# Altium footprint library Spansion Footprints.PcbLib: 20 footprints (part 1 of 2)
Each footprint in its own frame and in the unit in brackets; x right, y up, seen from the top. Pads: shape width x height; smd on the part's side, far side on the other; paste and mask are expansions set on the pad; w line width, h text height; cw(c..) or ccw(c..) is an arc to the next point about the centre after c.
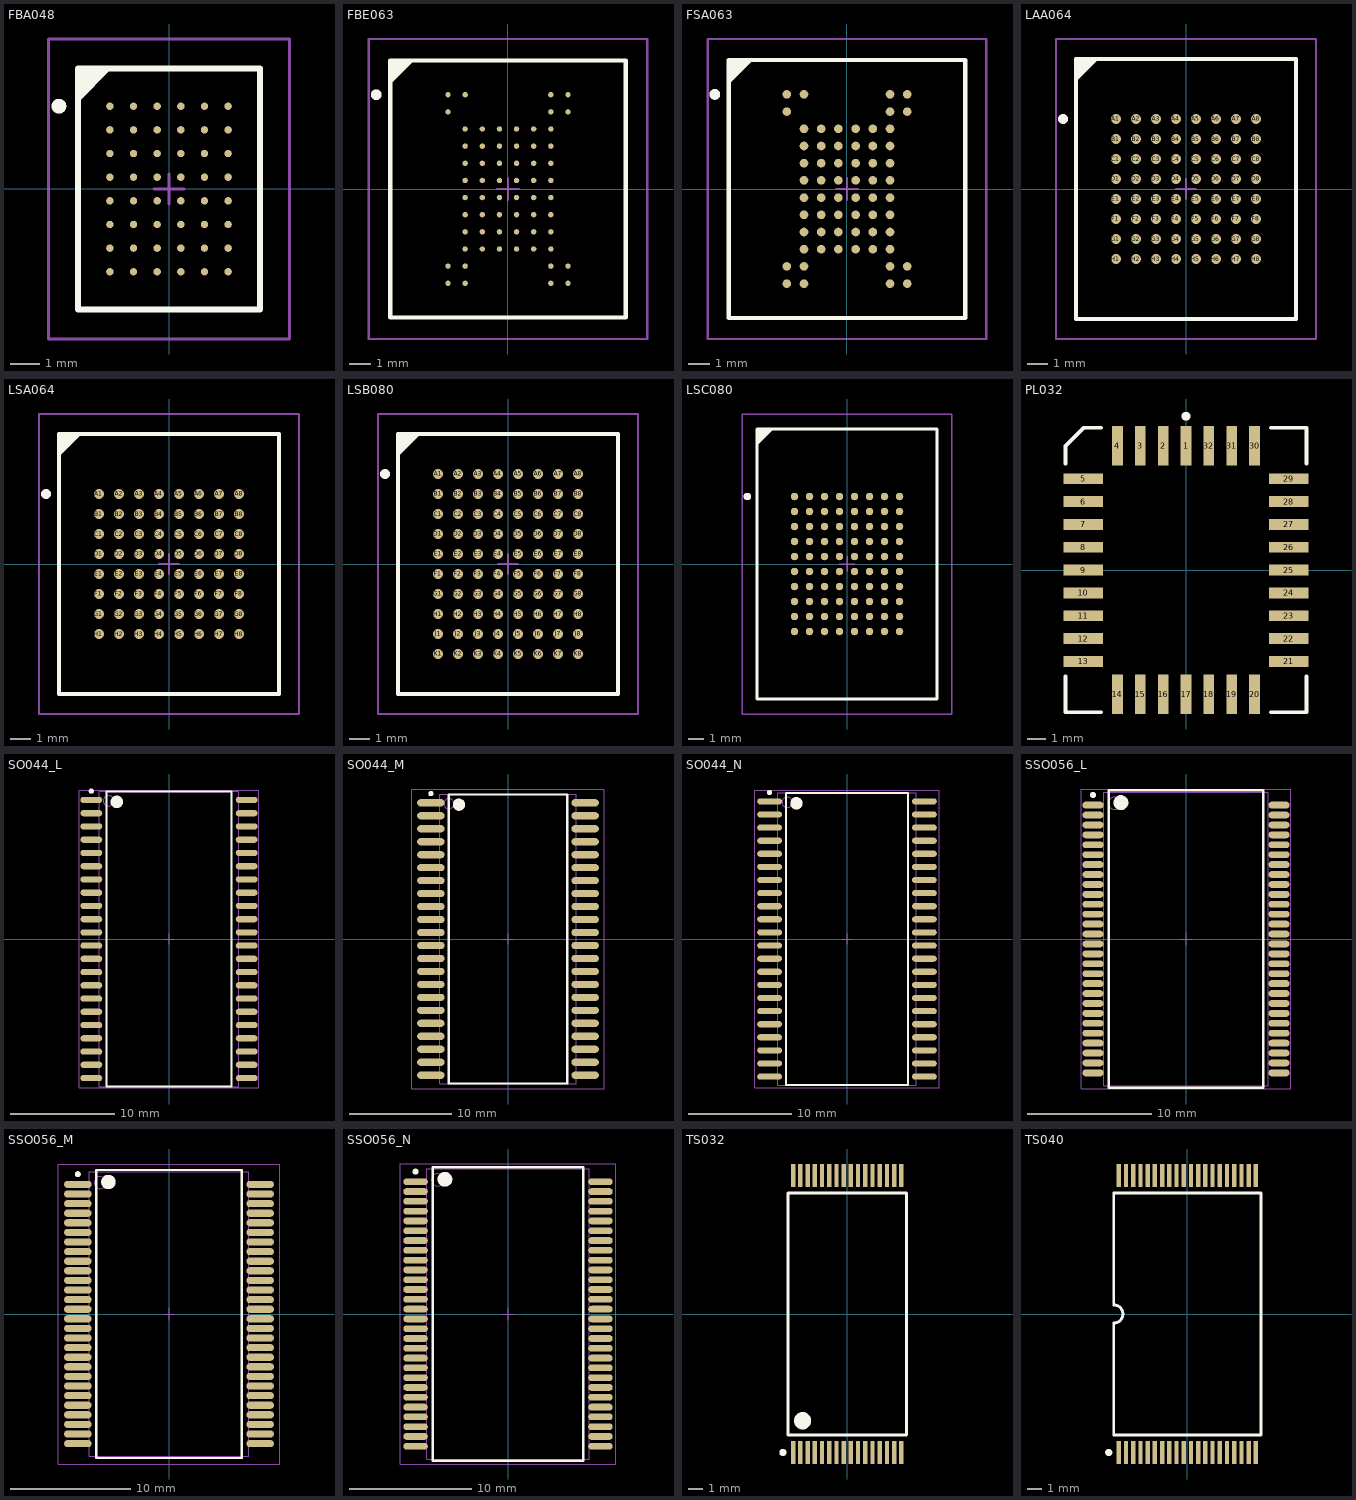
[diagram p0: the footprints below, top view; thin cyan lines are the x and y axes]

## FBA048 [mm] "48-Ball Fine Pitch Ball Grid Array Rectangular 0.8 mm Pitch"
height 1.2
pads (48):
  round 0.25 smd: A1(-2,2.8) A2(-1.2,2.8) A3(-0.4,2.8) A4(0.4,2.8) A5(1.2,2.8) A6(2,2.8) B1(-2,2) B2(-1.2,2) B3(-0.4,2) B4(0.4,2) B5(1.2,2) B6(2,2) C1(-2,1.2) C2(-1.2,1.2) C3(-0.4,1.2) C4(0.4,1.2) C5(1.2,1.2) C6(2,1.2) D1(-2,0.4) D2(-1.2,0.4) D3(-0.4,0.4) D4(0.4,0.4) D5(1.2,0.4) D6(2,0.4) E1(-2,-0.4) E2(-1.2,-0.4) E3(-0.4,-0.4) E4(0.4,-0.4) E5(1.2,-0.4) E6(2,-0.4) F1(-2,-1.2) F2(-1.2,-1.2) F3(-0.4,-1.2) F4(0.4,-1.2) F5(1.2,-1.2) F6(2,-1.2) G1(-2,-2) G2(-1.2,-2) G3(-0.4,-2) G4(0.4,-2) G5(1.2,-2) G6(2,-2) H1(-2,-2.8) H2(-1.2,-2.8) H3(-0.4,-2.8) H4(0.4,-2.8) H5(1.2,-2.8) H6(2,-2.8)
Top Overlay:
  circle w0.25: c-3.725,2.8 r0.125
  region: -2.075,4.075 -3.075,3.075 -3.075,4.075
  lines w0.2: -3.075,3.075 -2.075,4.075 ; -3.075,-4.075 3.075,-4.075 3.075,4.075 -3.075,4.075 -3.075,-4.075
Mechanical 13:
  lines w0.1: -3.075,-4.075 3.075,-4.075 3.075,4.075 -3.075,4.075 -3.075,-4.075
Mechanical 15:
  lines w0.1: -0.5,0 0.5,0 ; 0,-0.5 0,0.5 ; -4.075,-5.075 4.075,-5.075 4.075,5.075 -4.075,5.075 -4.075,-5.075
3D body: height 1.2, standoff 0, extent -3.075,-4.075 3.075,4.075

## FBE063 [mm] "63-Ball Fine Pitch Ball Grid Array Rectangular 0.8 mm Pitch"
height 1.2
pads (63):
  round 0.25 smd: A1(-2.8,4.4) A2(-2,4.4) A7(2,4.4) A8(2.8,4.4) B1(-2.8,3.6) B7(2,3.6) B8(2.8,3.6) C2(-2,2.8) C3(-1.2,2.8) C4(-0.4,2.8) C5(0.4,2.8) C6(1.2,2.8) C7(2,2.8) D2(-2,2) D3(-1.2,2) D4(-0.4,2) D5(0.4,2) D6(1.2,2) D7(2,2) E2(-2,1.2) E3(-1.2,1.2) E4(-0.4,1.2) E5(0.4,1.2) E6(1.2,1.2) E7(2,1.2) F2(-2,0.4) F3(-1.2,0.4) F4(-0.4,0.4) F5(0.4,0.4) F6(1.2,0.4) F7(2,0.4) G2(-2,-0.4) G3(-1.2,-0.4) G4(-0.4,-0.4) G5(0.4,-0.4) G6(1.2,-0.4) G7(2,-0.4) H2(-2,-1.2) H3(-1.2,-1.2) H4(-0.4,-1.2) H5(0.4,-1.2) H6(1.2,-1.2) H7(2,-1.2) J2(-2,-2) J3(-1.2,-2) J4(-0.4,-2) J5(0.4,-2) J6(1.2,-2) J7(2,-2) K2(-2,-2.8) K3(-1.2,-2.8) K4(-0.4,-2.8) K5(0.4,-2.8) K6(1.2,-2.8) K7(2,-2.8) L1(-2.8,-3.6) L2(-2,-3.6) L7(2,-3.6) L8(2.8,-3.6) M1(-2.8,-4.4) M2(-2,-4.4) M7(2,-4.4) M8(2.8,-4.4)
Top Overlay:
  circle w0.25: c-6.15,4.4 r0.125
  region: -4.5,6 -5.5,5 -5.5,6
  lines w0.2: -5.5,5 -4.5,6 ; -5.5,-6 5.5,-6 5.5,6 -5.5,6 -5.5,-6
Mechanical 13:
  lines w0.1: -5.5,-6 5.5,-6 5.5,6 -5.5,6 -5.5,-6
Mechanical 15:
  lines w0.1: -0.5,0 0.5,0 ; 0,-0.5 0,0.5 ; -6.5,-7 6.5,-7 6.5,7 -6.5,7 -6.5,-7
3D body: height 1.2, standoff 0, extent -5.5,-6 5.5,6

## FSA063 [mm] "63-Ball Fine Pitch Ball Grid Array Rectangular 0.8 mm Pitch"
height 1.7
pads (63):
  round 0.4 smd: A1(-2.8,4.4) A2(-2,4.4) A7(2,4.4) A8(2.8,4.4) B1(-2.8,3.6) B7(2,3.6) B8(2.8,3.6) C2(-2,2.8) C3(-1.2,2.8) C4(-0.4,2.8) C5(0.4,2.8) C6(1.2,2.8) C7(2,2.8) D2(-2,2) D3(-1.2,2) D4(-0.4,2) D5(0.4,2) D6(1.2,2) D7(2,2) E2(-2,1.2) E3(-1.2,1.2) E4(-0.4,1.2) E5(0.4,1.2) E6(1.2,1.2) E7(2,1.2) F2(-2,0.4) F3(-1.2,0.4) F4(-0.4,0.4) F5(0.4,0.4) F6(1.2,0.4) F7(2,0.4) G2(-2,-0.4) G3(-1.2,-0.4) G4(-0.4,-0.4) G5(0.4,-0.4) G6(1.2,-0.4) G7(2,-0.4) H2(-2,-1.2) H3(-1.2,-1.2) H4(-0.4,-1.2) H5(0.4,-1.2) H6(1.2,-1.2) H7(2,-1.2) J2(-2,-2) J3(-1.2,-2) J4(-0.4,-2) J5(0.4,-2) J6(1.2,-2) J7(2,-2) K2(-2,-2.8) K3(-1.2,-2.8) K4(-0.4,-2.8) K5(0.4,-2.8) K6(1.2,-2.8) K7(2,-2.8) L1(-2.8,-3.6) L2(-2,-3.6) L7(2,-3.6) L8(2.8,-3.6) M1(-2.8,-4.4) M2(-2,-4.4) M7(2,-4.4) M8(2.8,-4.4)
Top Overlay:
  circle w0.25: c-6.15,4.4 r0.125
  region: -4.5,6 -5.5,5 -5.5,6
  lines w0.2: -5.5,5 -4.5,6 ; -5.5,-6 5.5,-6 5.5,6 -5.5,6 -5.5,-6
Mechanical 13:
  lines w0.1: -5.475,-5.975 5.475,-5.975 5.475,5.975 -5.475,5.975 -5.475,-5.975
Mechanical 15:
  lines w0.1: -0.5,0 0.5,0 ; 0,-0.5 0,0.5 ; -6.475,-6.975 6.475,-6.975 6.475,6.975 -6.475,6.975 -6.475,-6.975
3D body: height 1.7, standoff 0, extent -5.475,-5.975 5.475,5.975

## LAA064 [mm] "64-Ball Fortified Ball Grid Array Rectangular 1 mm Pitch"
height 1.4
pads (64):
  round 0.5 smd: A1(-3.5,3.5) A2(-2.5,3.5) A3(-1.5,3.5) A4(-0.5,3.5) A5(0.5,3.5) A6(1.5,3.5) A7(2.5,3.5) A8(3.5,3.5) B1(-3.5,2.5) B2(-2.5,2.5) B3(-1.5,2.5) B4(-0.5,2.5) B5(0.5,2.5) B6(1.5,2.5) B7(2.5,2.5) B8(3.5,2.5) C1(-3.5,1.5) C2(-2.5,1.5) C3(-1.5,1.5) C4(-0.5,1.5) C5(0.5,1.5) C6(1.5,1.5) C7(2.5,1.5) C8(3.5,1.5) D1(-3.5,0.5) D2(-2.5,0.5) D3(-1.5,0.5) D4(-0.5,0.5) D5(0.5,0.5) D6(1.5,0.5) D7(2.5,0.5) D8(3.5,0.5) E1(-3.5,-0.5) E2(-2.5,-0.5) E3(-1.5,-0.5) E4(-0.5,-0.5) E5(0.5,-0.5) E6(1.5,-0.5) E7(2.5,-0.5) E8(3.5,-0.5) F1(-3.5,-1.5) F2(-2.5,-1.5) F3(-1.5,-1.5) F4(-0.5,-1.5) F5(0.5,-1.5) F6(1.5,-1.5) F7(2.5,-1.5) F8(3.5,-1.5) G1(-3.5,-2.5) G2(-2.5,-2.5) G3(-1.5,-2.5) G4(-0.5,-2.5) G5(0.5,-2.5) G6(1.5,-2.5) G7(2.5,-2.5) G8(3.5,-2.5) H1(-3.5,-3.5) H2(-2.5,-3.5) H3(-1.5,-3.5) H4(-0.5,-3.5) H5(0.5,-3.5) H6(1.5,-3.5) H7(2.5,-3.5) H8(3.5,-3.5)
Top Overlay:
  circle w0.25: c-6.15,3.5 r0.125
  region: -4.5,6.5 -5.5,5.5 -5.5,6.5
  lines w0.2: -5.5,5.5 -4.5,6.5 ; -5.5,-6.5 5.5,-6.5 5.5,6.5 -5.5,6.5 -5.5,-6.5
Mechanical 13:
  lines w0.1: -5.5,-6.5 5.5,-6.5 5.5,6.5 -5.5,6.5 -5.5,-6.5
Mechanical 15:
  lines w0.1: -0.5,0 0.5,0 ; 0,-0.5 0,0.5 ; -6.5,-7.5 6.5,-7.5 6.5,7.5 -6.5,7.5 -6.5,-7.5
3D body: height 1.4, standoff 0, extent -5.5,-6.5 5.5,6.5

## LSA064 [mm] "64-Ball Fortified Ball Grid Array Rectangular 1 mm Pitch"
height 1.7
pads (64):
  round 0.5 smd: A1(-3.5,3.5) A2(-2.5,3.5) A3(-1.5,3.5) A4(-0.5,3.5) A5(0.5,3.5) A6(1.5,3.5) A7(2.5,3.5) A8(3.5,3.5) B1(-3.5,2.5) B2(-2.5,2.5) B3(-1.5,2.5) B4(-0.5,2.5) B5(0.5,2.5) B6(1.5,2.5) B7(2.5,2.5) B8(3.5,2.5) C1(-3.5,1.5) C2(-2.5,1.5) C3(-1.5,1.5) C4(-0.5,1.5) C5(0.5,1.5) C6(1.5,1.5) C7(2.5,1.5) C8(3.5,1.5) D1(-3.5,0.5) D2(-2.5,0.5) D3(-1.5,0.5) D4(-0.5,0.5) D5(0.5,0.5) D6(1.5,0.5) D7(2.5,0.5) D8(3.5,0.5) E1(-3.5,-0.5) E2(-2.5,-0.5) E3(-1.5,-0.5) E4(-0.5,-0.5) E5(0.5,-0.5) E6(1.5,-0.5) E7(2.5,-0.5) E8(3.5,-0.5) F1(-3.5,-1.5) F2(-2.5,-1.5) F3(-1.5,-1.5) F4(-0.5,-1.5) F5(0.5,-1.5) F6(1.5,-1.5) F7(2.5,-1.5) F8(3.5,-1.5) G1(-3.5,-2.5) G2(-2.5,-2.5) G3(-1.5,-2.5) G4(-0.5,-2.5) G5(0.5,-2.5) G6(1.5,-2.5) G7(2.5,-2.5) G8(3.5,-2.5) H1(-3.5,-3.5) H2(-2.5,-3.5) H3(-1.5,-3.5) H4(-0.5,-3.5) H5(0.5,-3.5) H6(1.5,-3.5) H7(2.5,-3.5) H8(3.5,-3.5)
Top Overlay:
  circle w0.25: c-6.15,3.5 r0.125
  region: -4.5,6.5 -5.5,5.5 -5.5,6.5
  lines w0.2: -5.5,5.5 -4.5,6.5 ; -5.5,-6.5 5.5,-6.5 5.5,6.5 -5.5,6.5 -5.5,-6.5
Mechanical 13:
  lines w0.1: -5.5,-6.5 5.5,-6.5 5.5,6.5 -5.5,6.5 -5.5,-6.5
Mechanical 15:
  lines w0.1: -0.5,0 0.5,0 ; 0,-0.5 0,0.5 ; -6.5,-7.5 6.5,-7.5 6.5,7.5 -6.5,7.5 -6.5,-7.5
3D body: height 1.7, standoff 0, extent -5.5,-6.5 5.5,6.5

## LSB080 [mm] "80-Ball Fortified Ball Grid Array Rectangular 1 mm Pitch"
height 1.6
pads (80):
  round 0.5 smd: A1(-3.5,4.5) A2(-2.5,4.5) A3(-1.5,4.5) A4(-0.5,4.5) A5(0.5,4.5) A6(1.5,4.5) A7(2.5,4.5) A8(3.5,4.5) B1(-3.5,3.5) B2(-2.5,3.5) B3(-1.5,3.5) B4(-0.5,3.5) B5(0.5,3.5) B6(1.5,3.5) B7(2.5,3.5) B8(3.5,3.5) C1(-3.5,2.5) C2(-2.5,2.5) C3(-1.5,2.5) C4(-0.5,2.5) C5(0.5,2.5) C6(1.5,2.5) C7(2.5,2.5) C8(3.5,2.5) D1(-3.5,1.5) D2(-2.5,1.5) D3(-1.5,1.5) D4(-0.5,1.5) D5(0.5,1.5) D6(1.5,1.5) D7(2.5,1.5) D8(3.5,1.5) E1(-3.5,0.5) E2(-2.5,0.5) E3(-1.5,0.5) E4(-0.5,0.5) E5(0.5,0.5) E6(1.5,0.5) E7(2.5,0.5) E8(3.5,0.5) F1(-3.5,-0.5) F2(-2.5,-0.5) F3(-1.5,-0.5) F4(-0.5,-0.5) F5(0.5,-0.5) F6(1.5,-0.5) F7(2.5,-0.5) F8(3.5,-0.5) G1(-3.5,-1.5) G2(-2.5,-1.5) G3(-1.5,-1.5) G4(-0.5,-1.5) G5(0.5,-1.5) G6(1.5,-1.5) G7(2.5,-1.5) G8(3.5,-1.5) H1(-3.5,-2.5) H2(-2.5,-2.5) H3(-1.5,-2.5) H4(-0.5,-2.5) H5(0.5,-2.5) H6(1.5,-2.5) H7(2.5,-2.5) H8(3.5,-2.5) J1(-3.5,-3.5) J2(-2.5,-3.5) J3(-1.5,-3.5) J4(-0.5,-3.5) J5(0.5,-3.5) J6(1.5,-3.5) J7(2.5,-3.5) J8(3.5,-3.5) K1(-3.5,-4.5) K2(-2.5,-4.5) K3(-1.5,-4.5) K4(-0.5,-4.5) K5(0.5,-4.5) K6(1.5,-4.5) K7(2.5,-4.5) K8(3.5,-4.5)
Top Overlay:
  circle w0.25: c-6.15,4.5 r0.125
  region: -4.5,6.5 -5.5,5.5 -5.5,6.5
  lines w0.2: -5.5,5.5 -4.5,6.5 ; -5.5,-6.5 5.5,-6.5 5.5,6.5 -5.5,6.5 -5.5,-6.5
Mechanical 13:
  lines w0.1: -5.5,-6.5 5.5,-6.5 5.5,6.5 -5.5,6.5 -5.5,-6.5
Mechanical 15:
  lines w0.1: -0.5,0 0.5,0 ; 0,-0.5 0,0.5 ; -6.5,-7.5 6.5,-7.5 6.5,7.5 -6.5,7.5 -6.5,-7.5
3D body: height 1.6, standoff 0, extent -5.5,-6.5 5.5,6.5

## LSC080 [mm] "80-Ball Fortified Ball Grid Array Rectangular 1 mm Pitch"
height 1.6
pads (80):
  round 0.5 smd: A1(-3.5,4.5) A2(-2.5,4.5) A3(-1.5,4.5) A4(-0.5,4.5) A5(0.5,4.5) A6(1.5,4.5) A7(2.5,4.5) A8(3.5,4.5) B1(-3.5,3.5) B2(-2.5,3.5) B3(-1.5,3.5) B4(-0.5,3.5) B5(0.5,3.5) B6(1.5,3.5) B7(2.5,3.5) B8(3.5,3.5) C1(-3.5,2.5) C2(-2.5,2.5) C3(-1.5,2.5) C4(-0.5,2.5) C5(0.5,2.5) C6(1.5,2.5) C7(2.5,2.5) C8(3.5,2.5) D1(-3.5,1.5) D2(-2.5,1.5) D3(-1.5,1.5) D4(-0.5,1.5) D5(0.5,1.5) D6(1.5,1.5) D7(2.5,1.5) D8(3.5,1.5) E1(-3.5,0.5) E2(-2.5,0.5) E3(-1.5,0.5) E4(-0.5,0.5) E5(0.5,0.5) E6(1.5,0.5) E7(2.5,0.5) E8(3.5,0.5) F1(-3.5,-0.5) F2(-2.5,-0.5) F3(-1.5,-0.5) F4(-0.5,-0.5) F5(0.5,-0.5) F6(1.5,-0.5) F7(2.5,-0.5) F8(3.5,-0.5) G1(-3.5,-1.5) G2(-2.5,-1.5) G3(-1.5,-1.5) G4(-0.5,-1.5) G5(0.5,-1.5) G6(1.5,-1.5) G7(2.5,-1.5) G8(3.5,-1.5) H1(-3.5,-2.5) H2(-2.5,-2.5) H3(-1.5,-2.5) H4(-0.5,-2.5) H5(0.5,-2.5) H6(1.5,-2.5) H7(2.5,-2.5) H8(3.5,-2.5) J1(-3.5,-3.5) J2(-2.5,-3.5) J3(-1.5,-3.5) J4(-0.5,-3.5) J5(0.5,-3.5) J6(1.5,-3.5) J7(2.5,-3.5) J8(3.5,-3.5) K1(-3.5,-4.5) K2(-2.5,-4.5) K3(-1.5,-4.5) K4(-0.5,-4.5) K5(0.5,-4.5) K6(1.5,-4.5) K7(2.5,-4.5) K8(3.5,-4.5)
Top Overlay:
  circle w0.25: c-6.65,4.5 r0.125
  region: -5,9 -6,8 -6,9
  lines w0.2: -6,8 -5,9 ; -6,-9 -6,9 6,9 6,-9 -6,-9
Mechanical 13:
  lines w0.1: -6,-9 -6,9 6,9 6,-9 -6,-9
Mechanical 15:
  lines w0.1: -0.5,0 0.5,0 ; 0,-0.5 0,0.5 ; -7,-10 -7,10 7,10 7,-10 -7,-10
3D body: height 1.6, standoff 0, extent -6,-9 6,9

## PL032 [mm] "Leaded Chip Carrier, Plastic; 32 Leads; Body 11.4 x 14 mm"
height 3.56
pads (32):
  rect 0.6x2.2 smd: 1(0,6.9) 2(-1.27,6.9) 3(-2.54,6.9) 4(-3.81,6.9) 14(-3.81,-6.9) 15(-2.54,-6.9) 16(-1.27,-6.9) 17(0,-6.9) 18(1.27,-6.9) 19(2.54,-6.9) 20(3.81,-6.9) 30(3.81,6.9) 31(2.54,6.9) 32(1.27,6.9)
  rect 2.2x0.6 smd: 5(-5.7,5.08) 6(-5.7,3.81) 7(-5.7,2.54) 8(-5.7,1.27) 9(-5.7,0) 10(-5.7,-1.27) 11(-5.7,-2.54) 12(-5.7,-3.81) 13(-5.7,-5.08) 21(5.7,-5.08) 22(5.7,-3.81) 23(5.7,-2.54) 24(5.7,-1.27) 25(5.7,0) 26(5.7,1.27) 27(5.7,2.54) 28(5.7,3.81) 29(5.7,5.08)
Top Overlay:
  circle w0.25: c0,8.55 r0.125
  lines w0.2: -6.7,-5.9 -6.7,-7.9 -4.7,-7.9 ; -6.7,5.9 -6.7,6.9 -5.7,7.9 -4.7,7.9 ; 4.7,-7.9 6.7,-7.9 6.7,-5.9 ; 4.7,7.9 6.7,7.9 6.7,5.9

## SO044_L [mm] "44-Pin Small Outline Package 1.27 mm Pitch, IPC High Density"
pads (44):
  oval 2.1x0.6 smd: 1(-7.45,13.335) 2(-7.45,12.065) 3(-7.45,10.795) 4(-7.45,9.525) 5(-7.45,8.255) 6(-7.45,6.985) 7(-7.45,5.715) 8(-7.45,4.445) 9(-7.45,3.175) 10(-7.45,1.905) 11(-7.45,0.635) 12(-7.45,-0.635) 13(-7.45,-1.905) 14(-7.45,-3.175) 15(-7.45,-4.445) 16(-7.45,-5.715) 17(-7.45,-6.985) 18(-7.45,-8.255) 19(-7.45,-9.525) 20(-7.45,-10.795) 21(-7.45,-12.065) 22(-7.45,-13.335) 23(7.45,-13.335) 24(7.45,-12.065) 25(7.45,-10.795) 26(7.45,-9.525) 27(7.45,-8.255) 28(7.45,-6.985) 29(7.45,-5.715) 30(7.45,-4.445) 31(7.45,-3.175) 32(7.45,-1.905) 33(7.45,-0.635) 34(7.45,0.635) 35(7.45,1.905) 36(7.45,3.175) 37(7.45,4.445) 38(7.45,5.715) 39(7.45,6.985) 40(7.45,8.255) 41(7.45,9.525) 42(7.45,10.795) 43(7.45,12.065) 44(7.45,13.335)
Top Overlay:
  circle w0.25: c-7.45,14.185 r0.125
  circle w0.6: c-5,13.15 r0.3
  lines w0.2: -6,-14.15 -6,14.15 6,14.15 6,-14.15 -6,-14.15
Mechanical 13:
  circle w0.1: c-5.8,13.25 r0.5
  lines w0.1: -6.7,-14.15 -6.7,14.15 6.7,14.15 6.7,-14.15 -6.7,-14.15
Mechanical 15:
  lines w0.1: -0.5,0 0.5,0 ; 0,-0.5 0,0.5 ; -8.6,-14.25 -8.6,14.25 8.6,14.25 8.6,-14.25 -8.6,-14.25
3D body: height 0, standoff 0, extent -6.7,-14.15 6.7,14.15

## SO044_M [mm] "44-Pin Small Outline Package 1.27 mm Pitch, IPC Low Density"
pads (44):
  oval 2.7x0.7 smd: 1(-7.55,13.335) 2(-7.55,12.065) 3(-7.55,10.795) 4(-7.55,9.525) 5(-7.55,8.255) 6(-7.55,6.985) 7(-7.55,5.715) 8(-7.55,4.445) 9(-7.55,3.175) 10(-7.55,1.905) 11(-7.55,0.635) 12(-7.55,-0.635) 13(-7.55,-1.905) 14(-7.55,-3.175) 15(-7.55,-4.445) 16(-7.55,-5.715) 17(-7.55,-6.985) 18(-7.55,-8.255) 19(-7.55,-9.525) 20(-7.55,-10.795) 21(-7.55,-12.065) 22(-7.55,-13.335) 23(7.55,-13.335) 24(7.55,-12.065) 25(7.55,-10.795) 26(7.55,-9.525) 27(7.55,-8.255) 28(7.55,-6.985) 29(7.55,-5.715) 30(7.55,-4.445) 31(7.55,-3.175) 32(7.55,-1.905) 33(7.55,-0.635) 34(7.55,0.635) 35(7.55,1.905) 36(7.55,3.175) 37(7.55,4.445) 38(7.55,5.715) 39(7.55,6.985) 40(7.55,8.255) 41(7.55,9.525) 42(7.55,10.795) 43(7.55,12.065) 44(7.55,13.335)
Top Overlay:
  circle w0.25: c-7.55,14.235 r0.125
  circle w0.6: c-4.8,13.15 r0.3
  lines w0.2: -5.8,-14.15 -5.8,14.15 5.8,14.15 5.8,-14.15 -5.8,-14.15
Mechanical 13:
  circle w0.1: c-5.8,13.25 r0.5
  lines w0.1: -6.7,-14.15 -6.7,14.15 6.7,14.15 6.7,-14.15 -6.7,-14.15
Mechanical 15:
  lines w0.1: -0.5,0 0.5,0 ; 0,-0.5 0,0.5 ; -9.4,-14.65 -9.4,14.65 9.4,14.65 9.4,-14.65 -9.4,-14.65
3D body: height 0, standoff 0, extent -6.7,-14.15 6.7,14.15

## SO044_N [mm] "44-Pin Small Outline Package 1.27 mm Pitch, IPC Medium Density"
pads (44):
  oval 2.4x0.6 smd: 1(-7.5,13.335) 2(-7.5,12.065) 3(-7.5,10.795) 4(-7.5,9.525) 5(-7.5,8.255) 6(-7.5,6.985) 7(-7.5,5.715) 8(-7.5,4.445) 9(-7.5,3.175) 10(-7.5,1.905) 11(-7.5,0.635) 12(-7.5,-0.635) 13(-7.5,-1.905) 14(-7.5,-3.175) 15(-7.5,-4.445) 16(-7.5,-5.715) 17(-7.5,-6.985) 18(-7.5,-8.255) 19(-7.5,-9.525) 20(-7.5,-10.795) 21(-7.5,-12.065) 22(-7.5,-13.335) 23(7.5,-13.335) 24(7.5,-12.065) 25(7.5,-10.795) 26(7.5,-9.525) 27(7.5,-8.255) 28(7.5,-6.985) 29(7.5,-5.715) 30(7.5,-4.445) 31(7.5,-3.175) 32(7.5,-1.905) 33(7.5,-0.635) 34(7.5,0.635) 35(7.5,1.905) 36(7.5,3.175) 37(7.5,4.445) 38(7.5,5.715) 39(7.5,6.985) 40(7.5,8.255) 41(7.5,9.525) 42(7.5,10.795) 43(7.5,12.065) 44(7.5,13.335)
Top Overlay:
  circle w0.6: c-4.9,13.15 r0.3
  circle w0.25: c-7.5,14.185 r0.125
  lines w0.2: -5.9,-14.15 5.9,-14.15 5.9,14.15 -5.9,14.15 -5.9,-14.15
Mechanical 13:
  circle w0.1: c-5.8,13.25 r0.5
  lines w0.1: -6.7,-14.15 6.7,-14.15 6.7,14.15 -6.7,14.15 -6.7,-14.15
Mechanical 15:
  lines w0.1: -0.5,0 0.5,0 ; 0,-0.5 0,0.5 ; -8.95,-14.4 8.95,-14.4 8.95,14.4 -8.95,14.4 -8.95,-14.4
3D body: height 0, standoff 0, extent -6.7,-14.15 6.7,14.15

## SSO056_L [mm] "56-Pin Small Outline Package 0.8 mm Pitch, IPC High Density"
height 2
pads (56):
  oval 1.7x0.55 smd: 1(-7.5,10.8) 2(-7.5,10) 3(-7.5,9.2) 4(-7.5,8.4) 5(-7.5,7.6) 6(-7.5,6.8) 7(-7.5,6) 8(-7.5,5.2) 9(-7.5,4.4) 10(-7.5,3.6) 11(-7.5,2.8) 12(-7.5,2) 13(-7.5,1.2) 14(-7.5,0.4) 15(-7.5,-0.4) 16(-7.5,-1.2) 17(-7.5,-2) 18(-7.5,-2.8) 19(-7.5,-3.6) 20(-7.5,-4.4) 21(-7.5,-5.2) 22(-7.5,-6) 23(-7.5,-6.8) 24(-7.5,-7.6) 25(-7.5,-8.4) 26(-7.5,-9.2) 27(-7.5,-10) 28(-7.5,-10.8) 29(7.5,-10.8) 30(7.5,-10) 31(7.5,-9.2) 32(7.5,-8.4) 33(7.5,-7.6) 34(7.5,-6.8) 35(7.5,-6) 36(7.5,-5.2) 37(7.5,-4.4) 38(7.5,-3.6) 39(7.5,-2.8) 40(7.5,-2) 41(7.5,-1.2) 42(7.5,-0.4) 43(7.5,0.4) 44(7.5,1.2) 45(7.5,2) 46(7.5,2.8) 47(7.5,3.6) 48(7.5,4.4) 49(7.5,5.2) 50(7.5,6) 51(7.5,6.8) 52(7.5,7.6) 53(7.5,8.4) 54(7.5,9.2) 55(7.5,10) 56(7.5,10.8)
Top Overlay:
  circle w0.25: c-7.5,11.625 r0.125
  circle w0.6: c-5.25,11 r0.3
  lines w0.2: -6.25,-12 -6.25,12 6.25,12 6.25,-12 -6.25,-12
Mechanical 13:
  circle w0.1: c-5.75,10.95 r0.5
  lines w0.1: -6.65,-11.85 -6.65,11.85 6.65,11.85 6.65,-11.85 -6.65,-11.85
Mechanical 15:
  lines w0.1: -0.5,0 0.5,0 ; 0,-0.5 0,0.5 ; -8.45,-12.1 -8.45,12.1 8.45,12.1 8.45,-12.1 -8.45,-12.1
3D body: height 2, standoff 0, extent -6.65,-11.85 6.65,11.85

## SSO056_M [mm] "56-Pin Small Outline Package 0.8 mm Pitch, IPC Low Density"
height 2
pads (56):
  oval 2.3x0.6 smd: 1(-7.6,10.8) 2(-7.6,10) 3(-7.6,9.2) 4(-7.6,8.4) 5(-7.6,7.6) 6(-7.6,6.8) 7(-7.6,6) 8(-7.6,5.2) 9(-7.6,4.4) 10(-7.6,3.6) 11(-7.6,2.8) 12(-7.6,2) 13(-7.6,1.2) 14(-7.6,0.4) 15(-7.6,-0.4) 16(-7.6,-1.2) 17(-7.6,-2) 18(-7.6,-2.8) 19(-7.6,-3.6) 20(-7.6,-4.4) 21(-7.6,-5.2) 22(-7.6,-6) 23(-7.6,-6.8) 24(-7.6,-7.6) 25(-7.6,-8.4) 26(-7.6,-9.2) 27(-7.6,-10) 28(-7.6,-10.8) 29(7.6,-10.8) 30(7.6,-10) 31(7.6,-9.2) 32(7.6,-8.4) 33(7.6,-7.6) 34(7.6,-6.8) 35(7.6,-6) 36(7.6,-5.2) 37(7.6,-4.4) 38(7.6,-3.6) 39(7.6,-2.8) 40(7.6,-2) 41(7.6,-1.2) 42(7.6,-0.4) 43(7.6,0.4) 44(7.6,1.2) 45(7.6,2) 46(7.6,2.8) 47(7.6,3.6) 48(7.6,4.4) 49(7.6,5.2) 50(7.6,6) 51(7.6,6.8) 52(7.6,7.6) 53(7.6,8.4) 54(7.6,9.2) 55(7.6,10) 56(7.6,10.8)
Top Overlay:
  circle w0.6: c-5.05,11 r0.3
  circle w0.25: c-7.6,11.65 r0.125
  lines w0.2: -6.05,-12 6.05,-12 6.05,12 -6.05,12 -6.05,-12
Mechanical 13:
  circle w0.1: c-5.75,10.95 r0.5
  lines w0.1: -6.65,-11.85 6.65,-11.85 6.65,11.85 -6.65,11.85 -6.65,-11.85
Mechanical 15:
  lines w0.1: -0.5,0 0.5,0 ; 0,-0.5 0,0.5 ; -9.25,-12.5 9.25,-12.5 9.25,12.5 -9.25,12.5 -9.25,-12.5
3D body: height 2, standoff 0, extent -6.65,-11.85 6.65,11.85

## SSO056_N [mm] "56-Pin Small Outline Package 0.8 mm Pitch, IPC Medium Density"
height 2
pads (56):
  oval 2x0.55 smd: 1(-7.55,10.8) 2(-7.55,10) 3(-7.55,9.2) 4(-7.55,8.4) 5(-7.55,7.6) 6(-7.55,6.8) 7(-7.55,6) 8(-7.55,5.2) 9(-7.55,4.4) 10(-7.55,3.6) 11(-7.55,2.8) 12(-7.55,2) 13(-7.55,1.2) 14(-7.55,0.4) 15(-7.55,-0.4) 16(-7.55,-1.2) 17(-7.55,-2) 18(-7.55,-2.8) 19(-7.55,-3.6) 20(-7.55,-4.4) 21(-7.55,-5.2) 22(-7.55,-6) 23(-7.55,-6.8) 24(-7.55,-7.6) 25(-7.55,-8.4) 26(-7.55,-9.2) 27(-7.55,-10) 28(-7.55,-10.8) 29(7.55,-10.8) 30(7.55,-10) 31(7.55,-9.2) 32(7.55,-8.4) 33(7.55,-7.6) 34(7.55,-6.8) 35(7.55,-6) 36(7.55,-5.2) 37(7.55,-4.4) 38(7.55,-3.6) 39(7.55,-2.8) 40(7.55,-2) 41(7.55,-1.2) 42(7.55,-0.4) 43(7.55,0.4) 44(7.55,1.2) 45(7.55,2) 46(7.55,2.8) 47(7.55,3.6) 48(7.55,4.4) 49(7.55,5.2) 50(7.55,6) 51(7.55,6.8) 52(7.55,7.6) 53(7.55,8.4) 54(7.55,9.2) 55(7.55,10) 56(7.55,10.8)
Top Overlay:
  circle w0.25: c-7.55,11.625 r0.125
  circle w0.6: c-5.15,11 r0.3
  lines w0.2: -6.15,-12 -6.15,12 6.15,12 6.15,-12 -6.15,-12
Mechanical 13:
  circle w0.1: c-5.75,10.95 r0.5
  lines w0.1: -6.65,-11.85 -6.65,11.85 6.65,11.85 6.65,-11.85 -6.65,-11.85
Mechanical 15:
  lines w0.1: -0.5,0 0.5,0 ; 0,-0.5 0,0.5 ; -8.8,-12.25 -8.8,12.25 8.8,12.25 8.8,-12.25 -8.8,-12.25
3D body: height 2, standoff 0, extent -6.65,-11.85 6.65,11.85

## TS032 [mm] "Thin Small Outline; 32 Leads; Body Width 18.4 mm; Pitch 0.5 mm"
height 1.2
pads (32):
  rect 0.3x1.6 smd: 1(-3.75,-9.6) 2(-3.25,-9.6) 3(-2.75,-9.6) 4(-2.25,-9.6) 5(-1.75,-9.6) 6(-1.25,-9.6) 7(-0.75,-9.6) 8(-0.25,-9.6) 9(0.25,-9.6) 10(0.75,-9.6) 11(1.25,-9.6) 12(1.75,-9.6) 13(2.25,-9.6) 14(2.75,-9.6) 15(3.25,-9.6) 16(3.75,-9.6) 17(3.75,9.6) 18(3.25,9.6) 19(2.75,9.6) 20(2.25,9.6) 21(1.75,9.6) 22(1.25,9.6) 23(0.75,9.6) 24(0.25,9.6) 25(-0.25,9.6) 26(-0.75,9.6) 27(-1.25,9.6) 28(-1.75,9.6) 29(-2.25,9.6) 30(-2.75,9.6) 31(-3.25,9.6) 32(-3.75,9.6)
Top Overlay:
  circle w0.6: c-3.1,-7.4 r0.3
  circle w0.25: c-4.46,-9.6 r0.125
  lines w0.2: -4.1,-8.4 4.1,-8.4 4.1,8.4 -4.1,8.4 -4.1,-0.635 -4.1,-8.4

## TS040 [mm] "Thin Small Outline; 40 Leads; Body Width 18.4 mm; Pitch 0.5 mm"
height 1.2
pads (40):
  rect 0.3x1.6 smd: 1(-4.75,-9.6) 2(-4.25,-9.6) 3(-3.75,-9.6) 4(-3.25,-9.6) 5(-2.75,-9.6) 6(-2.25,-9.6) 7(-1.75,-9.6) 8(-1.25,-9.6) 9(-0.75,-9.6) 10(-0.25,-9.6) 11(0.25,-9.6) 12(0.75,-9.6) 13(1.25,-9.6) 14(1.75,-9.6) 15(2.25,-9.6) 16(2.75,-9.6) 17(3.25,-9.6) 18(3.75,-9.6) 19(4.25,-9.6) 20(4.75,-9.6) 21(4.75,9.6) 22(4.25,9.6) 23(3.75,9.6) 24(3.25,9.6) 25(2.75,9.6) 26(2.25,9.6) 27(1.75,9.6) 28(1.25,9.6) 29(0.75,9.6) 30(0.25,9.6) 31(-0.25,9.6) 32(-0.75,9.6) 33(-1.25,9.6) 34(-1.75,9.6) 35(-2.25,9.6) 36(-2.75,9.6) 37(-3.25,9.6) 38(-3.75,9.6) 39(-4.25,9.6) 40(-4.75,9.6)
Top Overlay:
  circle w0.25: c-5.45,-9.6 r0.125
  lines w0.2: -5.1,-8.4 -5.1,-0.635 ccw(c-5.1,0) -5.1,0.635 -5.1,8.4 5.1,8.4 5.1,-8.4 -5.1,-8.4